# Altium integrated library ET2835-035.IntLib: 1 symbol
Pins are listed as number, name and electrical type; pins without a type are passive.

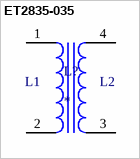
[diagram p0: symbol ET2835-035]

## ET2835-035
designator L?
92 mH @ 10 kHz 2 Line Common Mode Choke Through Hole 600mA DCR 2Ohm; MF: Triad Magnetics; MP: ET2835-035; SnapEDA_Link: https://www.snapeda.com/parts/ET2835-035/Triad+Magnetics/view-part/?ref=snap; Package: Vertical-4 Triad Magnetics; Value: *; Check_prices: https://www.snapeda.com/parts/ET2835-035/Triad+Magnetics/view-part/?ref=eda
footprint IND_ET2835-035
pins: 1, 2, 3, 4
text: L1; L2